# Altium footprint library Modules.PcbLib: 24 footprints (part 2 of 2)
Each footprint in its own frame and in the unit in brackets; x right, y up, seen from the top. Pads: shape width x height; smd on the part's side, far side on the other; paste and mask are expansions set on the pad; w line width, h text height; cw(c..) or ccw(c..) is an arc to the next point about the centre after c.
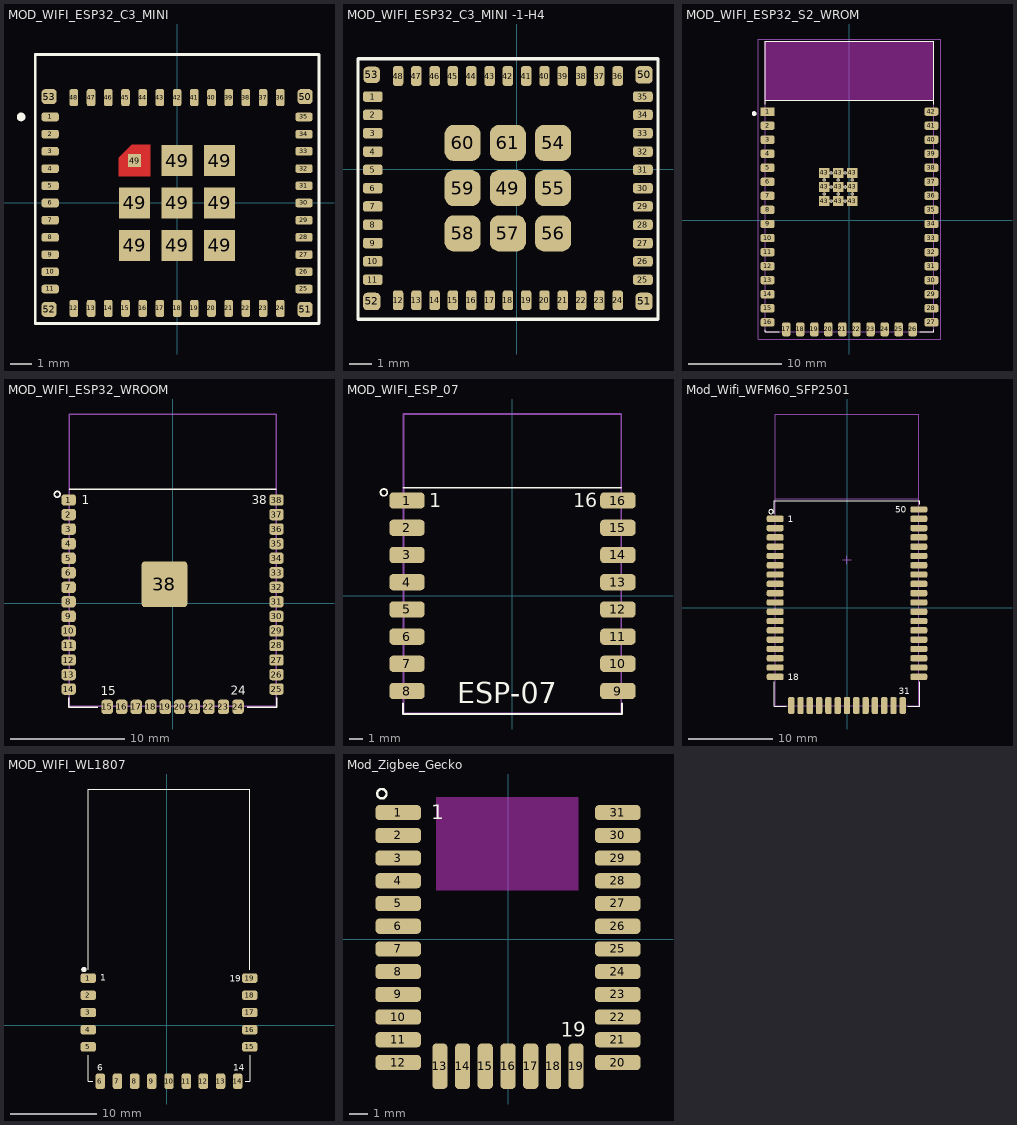
[diagram p1: the footprints below, top view; thin cyan lines are the x and y axes]

## MOD_WIFI_ESP32_C3_MINI [mm] "20220613 / E.Naranjo"
pads (61):
  rrect50% 0.8x0.4 smd: 1(-5.9,4) 2(-5.9,3.2) 3(-5.9,2.4) 4(-5.9,1.6) 5(-5.9,0.8) 6(-5.9,0) 7(-5.9,-0.8) 8(-5.9,-1.6) 9(-5.9,-2.4) 10(-5.9,-3.2) 11(-5.9,-4) 25(5.9,-4) 26(5.9,-3.2) 27(5.9,-2.4) 28(5.9,-1.6) 29(5.9,-0.8) 30(5.9,0) 31(5.9,0.8) 32(5.9,1.6) 33(5.9,2.4) 34(5.9,3.2) 35(5.9,4)
  rrect50% 0.4x0.8 smd: 12(-4.8,-4.9) 13(-4,-4.9) 14(-3.2,-4.9) 15(-2.4,-4.9) 16(-1.6,-4.9) 17(-0.8,-4.9) 18(0,-4.9) 19(0.8,-4.9) 20(1.6,-4.9) 21(2.4,-4.9) 22(3.2,-4.9) 23(4,-4.9) 24(4.8,-4.9) 36(4.8,4.9) 37(4,4.9) 38(3.2,4.9) 39(2.4,4.9) 40(1.6,4.9) 41(0.8,4.9) 42(0,4.9) 43(-0.8,4.9) 44(-1.6,4.9) 45(-2.4,4.9) 46(-3.2,4.9) 47(-4,4.9) 48(-4.8,4.9)
  rect 1.45x1.45 smd: 49(-1.975,-1.975) 49(-1.975,0) 49(0,-1.975) 49(0,0) 49(0,1.975) 49(1.975,-1.975) 49(1.975,0) 49(1.975,1.975)
  rect 0.6x0.6 smd paste-1 mask+0: 49(-1.975,1.975)
  rrect50% 0.7x0.7 smd: 50(5.95,4.95) 51(5.95,-4.95) 52(-5.95,-4.95) 53(-5.95,4.95)
Top Layer:
  region: -1.25,1.25 -2.7,1.25 -2.7,2.1 -2.1,2.7 -1.25,2.7
Top Overlay:
  circle w0.2: c-7.25,4 r0.1
  lines w0.127: -6.6,-5.6 -6.6,6.9 6.6,6.9 6.6,-5.6 -6.6,-5.6
Top Paste:
  region: -1.25,1.25 -2.7,1.25 -2.7,2.1 -2.1,2.7 -1.25,2.7
Top Solder:
  region: -1.15,1.15 -2.8,1.15 -2.8,2.14 -2.14,2.8 -1.15,2.8
3D body "ESP32-C3-MINI-1U-N4--3DModel-STEP-269445.STEP": height 2.56, standoff 0.01, extent -6.6,-5.6 6.6,6.9

## MOD_WIFI_ESP32_C3_MINI -1-H4 [mil] "20230614 / J.Jaramillo"
pads (74):
  rrect50% 34x18 smd paste+0 mask+0: 1(-247.36,124.73) 2(-247.36,93.23) 3(-247.36,61.73) 4(-247.36,30.24) 5(-247.36,-1.26) 6(-247.36,-32.75) 7(-247.36,-64.25) 8(-247.36,-95.75) 9(-247.36,-127.24) 10(-247.36,-158.74) 11(-247.36,-190.23) 25(217.21,-190.23) 26(217.21,-158.74) 27(217.21,-127.24) 28(217.21,-95.75) 29(217.21,-64.25) 30(217.21,-32.75) 31(217.21,-1.26) 32(217.21,30.24) 33(217.21,61.73) 34(217.21,93.23) 35(217.21,124.73)
  rrect50% 18x34 smd paste+0 mask+0: 12(-204.05,-225.67) 13(-172.55,-225.67) 14(-141.06,-225.67) 15(-109.56,-225.67) 16(-78.07,-225.67) 17(-46.57,-225.67) 18(-15.07,-225.67) 19(16.42,-225.67) 20(47.92,-225.67) 21(79.41,-225.67) 22(110.91,-225.67) 23(142.41,-225.67) 24(173.9,-225.67) 36(173.9,160.16) 37(142.41,160.16) 38(110.91,160.16) 39(79.41,160.16) 40(47.92,160.16) 41(16.42,160.16) 42(-15.07,160.16) 43(-46.57,160.16) 44(-78.07,160.16) 45(-109.56,160.16) 46(-141.06,160.16) 47(-172.55,160.16) 48(-204.05,160.16)
  rrect50% 62x62 smd paste-28.5 mask-28.5: 49(-15.07,-32.75) 54(62.68,45) 55(62.68,-32.75) 56(62.68,-110.51) 57(-15.07,-110.51) 58(-92.83,-110.51) 59(-92.83,-32.75) 60(-92.83,45) 61(-15.07,45)
  rrect50% 30x30 smd paste-14 mask-14: 50(219.18,162.13) 51(219.18,-227.64) 52(-249.33,-227.64)
  rrect50% 28x28 smd paste-14 mask-14: 53(-249.33,162.13)
  rrect50% 57x57 on Top Solder paste-28.5 mask-28.5: " "(-92.83,-110.51) " "(-92.83,-32.75) " "(-92.83,45) " "(-15.07,-110.51) " "(-15.07,-32.75) " "(-15.07,45) " "(62.68,-110.51) " "(62.68,-32.75) " "(62.68,45)
  rrect50% 28x28 on Top Solder paste-14 mask-14: ""(-249.33,-227.64) ""(219.18,-227.64) ""(219.18,162.13)
  rrect50% 30x30 on Top Solder paste-14 mask-14: ""(-249.33,162.13)
Top Overlay:
  lines w6: -272.9,-258.25 -272.9,189.84 243.21,189.84 243.21,-258.25 -272.9,-258.25
  text "." at -291.58,130.06 h50
3D body "ESP32-C3-MINI-1-N4--3DModel-STEP-1.STEP": height 100.39, standoff 0, extent -274.49,-253.07 245.2,400.48

## MOD_WIFI_ESP32_S2_WROM [mm] "/20210429/V-A.Patino"
pads (63):
  rect 1.5x0.9 smd: 1(-8.75,11.625)
  rrect50% 1.5x0.9 smd: 2(-8.75,10.125) 3(-8.75,8.625) 4(-8.75,7.125) 5(-8.75,5.625) 6(-8.75,4.125) 7(-8.75,2.625) 8(-8.75,1.125) 9(-8.75,-0.375) 10(-8.75,-1.875) 11(-8.75,-3.375) 12(-8.75,-4.875) 13(-8.75,-6.375) 14(-8.75,-7.875) 15(-8.75,-9.375) 16(-8.75,-10.875) 27(8.75,-10.875) 28(8.75,-9.375) 29(8.75,-7.875) 30(8.75,-6.375) 31(8.75,-4.875) 32(8.75,-3.375) 33(8.75,-1.875) 34(8.75,-0.375) 35(8.75,1.125) 36(8.75,2.625) 37(8.75,4.125) 38(8.75,5.625) 39(8.75,7.125) 40(8.75,8.625) 41(8.75,10.125) 42(8.75,11.625)
  rrect50% 0.9x1.5 smd: 17(-6.75,-11.625) 18(-5.25,-11.625) 19(-3.75,-11.625) 20(-2.25,-11.625) 21(-0.75,-11.625) 22(0.75,-11.625) 23(2.25,-11.625) 24(3.75,-11.625) 25(5.25,-11.625) 26(6.75,-11.625)
  rect 1.1x1.1 smd: 43(-2.69,2.075) 43(-2.69,3.575) 43(-2.69,5.075) 43(-1.19,2.075) 43(-1.19,3.575) 43(-1.19,5.075) 43(0.31,2.075) 43(0.31,3.575) 43(0.31,5.075)
  round 0.381 hole 0.254: 43(-2.69,2.825) 43(-2.69,4.325) 43(-1.94,2.075) 43(-1.94,3.575) 43(-1.94,5.075) 43(-1.19,2.825) 43(-1.19,4.325) 43(-0.44,2.075) 43(-0.44,3.575) 43(-0.44,5.075) 43(0.31,2.825) 43(0.31,4.325)
Top Overlay:
  circle w0.3: c-10.177,11.413 r0.1
  lines w0.127: -9,-11.645 -9,-11.875 -7.52,-11.875 ; -9,12.395 -9,19.125 9,19.125 9,12.825 ; -8.96,12.825 9,12.825 ; 7.52,-11.875 9,-11.875 9,-11.645 ; 9,12.395 9,12.825
Keep-Out Layer:
  region: 9,12.825 -9,12.825 -9,19.125 9,19.125
  region: 9,12.825 -9,12.825 -9,19.125 9,19.125
  region: 9,12.825 -9,12.825 -9,19.125 9,19.125
Mechanical 1:
  circle w0.3: c-10.177,11.413 r0.1
  lines w0.127: -8.96,12.825 9,12.825 ; 9,12.825 9,19.125 -9,19.125 -9,-11.875 9,-11.875 9,12.825
  text "ANTENNA" at -4.455,15.796 h1.27
Mechanical 15:
  lines w0.05: -9.75,-12.655 -9.75,19.375 9.75,19.375 9.75,-12.655 -9.75,-12.655
3D body: height 3.3, standoff 0, extent -9,-11.925 9,19.075

## MOD_WIFI_ESP32_WROOM [mm] "ESP32_WROOM / 20190221 / H-D.Garcia"
pads (39):
  rrect50% 1.25x1 smd: 1(-9.075,9.03) 2(-9.075,7.76) 3(-9.075,6.49) 4(-9.075,5.22) 5(-9.075,3.95) 6(-9.075,2.68) 7(-9.075,1.41) 8(-9.075,0.14) 9(-9.075,-1.13) 10(-9.075,-2.4) 11(-9.075,-3.67) 12(-9.075,-4.94) 13(-9.075,-6.21) 14(-9.075,-7.48) 25(9.075,-7.48) 26(9.075,-6.21) 27(9.075,-4.94) 28(9.075,-3.67) 29(9.075,-2.4) 30(9.075,-1.13) 31(9.075,0.14) 32(9.075,1.41) 33(9.075,2.68) 34(9.075,3.95) 35(9.075,5.22) 36(9.075,6.49) 37(9.075,7.76) 38(9.075,9.03)
  rrect50% 1x1.25 smd: 15(-5.715,-9.03) 16(-4.445,-9.03) 17(-3.175,-9.03) 18(-1.905,-9.03) 19(-0.635,-9.03) 20(0.635,-9.03) 21(1.905,-9.03) 22(3.175,-9.03) 23(4.445,-9.03) 24(5.715,-9.03)
  rrect15% 4x4 smd: 38(-0.711,1.668)
Top Overlay:
  circle w0.127: c-10.075,9.53 r0.252
  lines w0.127: -9.085,-8.22 -9.085,-9.05 -6.525,-9.05 ; -9.035,9.986 9.035,9.986 ; 6.525,-9.05 9.085,-9.05 9.085,-8.22
  text "1" at -7.937,8.649 h0.76
  text "15" at -6.286,-7.997 h0.76
  text "24" at 5.08,-7.971 h0.76
  text "38" at 6.922,8.649 h0.76
Mechanical 1:
  lines w0.127: -9.035,16.54 -9.035,-9 9.035,-9 9.035,16.54 -9.035,16.54 ; -9.035,16.54 -9.035,16.54
  text "Recommended Clearance:15mm" at -9.475,16.83 h0.76
  text "Antenna" at -4.951,12.018 h1.52
3D body "User Library-esp-wroom-32.step": height 3.05, standoff 0.02, extent -9.035,-9 9.035,16.54

## MOD_WIFI_ESP_07 [mm] "ESP_07 / 20190221 / H-D.Garcia"
pads (16):
  rrect50% 2.6x1.2 smd: 1(-7.75,7) 2(-7.75,5) 3(-7.75,3) 4(-7.75,1) 5(-7.75,-1) 6(-7.75,-3) 7(-7.75,-5) 8(-7.75,-7) 9(7.75,-7) 10(7.75,-5) 11(7.75,-3) 12(7.75,-1) 13(7.75,1) 14(7.75,3) 15(7.75,5) 16(7.75,7)
Top Overlay:
  circle w0.127: c-9.45,7.6 r0.252
  lines w0.127: -8.05,-7.912 -8.05,-8.687 8.05,-8.687 8.05,-7.912 ; -8,7.938 8,7.938
  text "1" at -6.124,6.492 h1.02
  text "ESP-07" at -4.067,-7.884 h1.52
  text "16" at 4.467,6.492 h1.02
Mechanical 1:
  lines w0.127: -8,-8.637 8,-8.637 8,13.363 -8,13.363 -8,-8.637
  text "Recommended Clearance:10mm" at -9.3,13.523 h0.76
  text "Antenna" at -4.6,9.769 h1.52
3D body "ESP07.step": height 3.52, standoff 0.01, extent -8,-8.637 8,13.363

## Mod_Wifi_WFM60_SFP2501 [mm] "WFM60 / 20190221 / H-D.Garcia"
pads (50):
  rrect50% 2x0.75 smd: 1(-8.5,10.5) 2(-8.5,9.4) 3(-8.5,8.3) 4(-8.5,7.2) 5(-8.5,6.1) 6(-8.5,5) 7(-8.5,3.9) 8(-8.5,2.8) 9(-8.5,1.7) 10(-8.5,0.6) 11(-8.5,-0.5) 12(-8.5,-1.6) 13(-8.5,-2.7) 14(-8.5,-3.8) 15(-8.5,-4.9) 16(-8.5,-6) 17(-8.5,-7.1) 18(-8.5,-8.2) 32(8.5,-8.2) 33(8.5,-7.1) 34(8.5,-6) 35(8.5,-4.9) 36(8.5,-3.8) 37(8.5,-2.7) 38(8.5,-1.6) 39(8.5,-0.5) 40(8.5,0.6) 41(8.5,1.7) 42(8.5,2.8) 43(8.5,3.9) 44(8.5,5) 45(8.5,6.1) 46(8.5,7.2) 47(8.5,8.3) 48(8.5,9.4) 49(8.5,10.5) 50(8.5,11.6)
  rrect50% 0.75x2 smd: 19(-6.6,-11.6) 20(-5.5,-11.6) 21(-4.4,-11.6) 22(-3.3,-11.6) 23(-2.2,-11.6) 24(-1.1,-11.6) 25(0,-11.6) 26(1.1,-11.6) 27(2.2,-11.6) 28(3.3,-11.6) 29(4.4,-11.6) 30(5.5,-11.6) 31(6.6,-11.6)
Top Overlay:
  circle w0.127: c-9,11.35 r0.25
  lines w0.127: -8.6,-8.8 -8.6,-11.7 -7.2,-11.7 ; -8.6,11.1 -8.6,12.65 8.6,12.65 8.6,12.2 ; 7.2,-11.7 8.6,-11.7 8.6,-8.8
  text "1" at -7,10.119 h0.76
  text "18" at -7,-8.581 h0.76
  text "31" at 6.1,-10.25 h0.76
  text "50" at 5.7,11.219 h0.76
Mechanical 1:
  lines w0.127: -8.5,12.9 -8.5,-11.6 8.5,-11.6 8.5,12.9 ; -8.5,12.9 8.5,12.9 ; -8.5,12.9 -8.5,22.9 8.5,22.9 8.5,12.9
  text "Antenna" at -4.951,13.5 h1.52
Mechanical 15:
  lines w0.127: -0.5,5.65 0.5,5.65 ; 0,5.15 0,6.15
3D body: height 2, standoff 0.1, extent -8.5,-11.6 8.5,22.9

## MOD_WIFI_WL1807 [mm] "WL1807/ 20191218 / N-A. Potosi"
pads (20):
  rrect50% 1.8x1.1 smd: 1(-9.15,5.5) 2(-9.15,3.5) 3(-9.15,1.5) 4(-9.15,-0.5) 5(-9.15,-2.5) 15(9.65,-2.5) 16(9.65,-0.5) 17(9.65,1.5) 18(9.65,3.5) 19(9.65,5.5)
  rrect50% 1.1x1.8 smd: 6(-7.75,-6.5) 7(-5.75,-6.5) 8(-3.75,-6.5) 9(-1.75,-6.5) 10(0.25,-6.5) 11(2.25,-6.5) 12(4.25,-6.5) 13(6.25,-6.5) 14(8.25,-6.5)
  round 0.635 on Top Overlay: ""(-9.65,6.5)
Top Overlay:
  lines w0.127: -9.15,-3.45 -9.15,-6.5 -8.6,-6.5 ; -9.15,6.5 -9.15,27.5 9.65,27.5 9.65,6.5 ; 9.1,-6.5 9.65,-6.5 9.65,-3.45
  text "1" at -7.75,5.2 h0.76
  text "6" at -8.1,-5.3 h0.76
  text "14" at 7.7,-5.3 h0.76
  text "19" at 7.3,5.1 h0.76
3D body "KIR05_WiFi_1.3.20191218.step": height 3.06, standoff 0.1, extent -9.15,-6.5 9.65,27.5

## Mod_Zigbee_Gecko [mil] "Mighty Gecko / 20220516/ N-A.Potosi"
pads (31):
  rrect50% 94.49x31.5 smd: 1(-228.35,263.78) 2(-228.35,216.53) 3(-228.35,169.29) 4(-228.35,122.04) 5(-228.35,74.8) 6(-228.35,27.55) 7(-228.35,-19.69) 8(-228.35,-66.93) 9(-228.35,-114.18) 10(-228.35,-161.42) 11(-228.35,-208.67) 12(-228.35,-255.91) 20(228.35,-255.91) 21(228.35,-208.67) 22(228.35,-161.42) 23(228.35,-114.18) 24(228.35,-66.93) 25(228.35,-19.69) 26(228.35,27.55) 27(228.35,74.8) 28(228.35,122.04) 29(228.35,169.29) 30(228.35,216.53) 31(228.35,263.78)
  rrect50% 31.5x94.49 smd: 13(-141.74,-263.78) 14(-94.49,-263.78) 15(-47.25,-263.78) 16(0,-263.78) 17(47.24,-263.78) 18(94.48,-263.78) 19(141.73,-263.78)
Top Layer keep-out:
  region: -149.61,102.36 -149.61,295.27 145.66,295.27 145.66,102.36
Top Overlay:
  circle w5: c-262.47,303.11 r9.84
  text "1" at -159.97,250 h30
  text "19" at 109.81,-202.66 h30
Mechanical 1:
  text "Antenna" at -98.73,183.66 h30
3D body "MGM210PA32JIA2.stp": height 96.46, standoff 3.94, extent -253.9,-287.27 253.97,303.28